# Altium footprint library SMD Active.PcbLib: 72 footprints (part 6 of 8)
Each footprint in its own frame and in the unit in brackets; x right, y up, seen from the top. Pads: shape width x height; smd on the part's side, far side on the other; paste and mask are expansions set on the pad; w line width, h text height; cw(c..) or ccw(c..) is an arc to the next point about the centre after c.
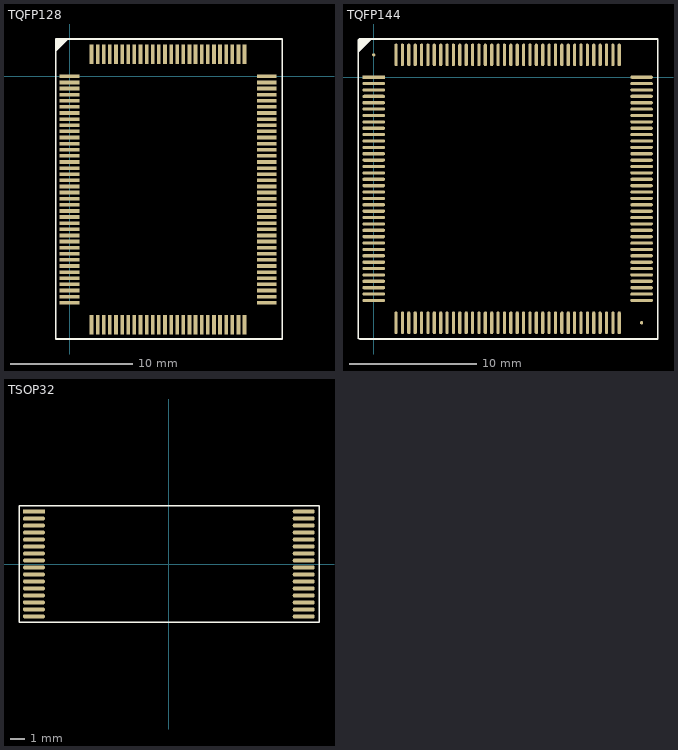
[diagram p5: the footprints below, top view; thin cyan lines are the x and y axes]

## TQFP128 [mm]
pads (128):
  rect 1.6x0.3 smd: 1(0,0) 2(0,-0.5) 3(0,-1) 4(0,-1.5) 5(0,-2) 6(0,-2.5) 7(0,-3) 8(0,-3.5) 9(0,-4) 10(0,-4.5) 11(0,-5) 12(0,-5.5) 13(0,-6) 14(0,-6.5) 15(0,-7) 16(0,-7.5) 17(0,-8) 18(0,-8.5) 19(0,-9) 20(0,-9.5) 21(0,-10) 22(0,-10.5) 23(0,-11) 24(0,-11.5) 25(0,-12) 26(0,-12.5) 27(0,-13) 28(0,-13.5) 29(0,-14) 30(0,-14.5) 31(0,-15) 32(0,-15.5) 33(0,-16) 34(0,-16.5) 35(0,-17) 36(0,-17.5) 37(0,-18) 38(0,-18.5) 65(16.1,-18.5) 66(16.1,-18) 67(16.1,-17.5) 68(16.1,-17) 69(16.1,-16.5) 70(16.1,-16) 71(16.1,-15.5) 72(16.1,-15) 73(16.1,-14.5) 74(16.1,-14) 75(16.1,-13.5) 76(16.1,-13) 77(16.1,-12.5) 78(16.1,-12) 79(16.1,-11.5) 80(16.1,-11) 81(16.1,-10.5) 82(16.1,-10) 83(16.1,-9.5) 84(16.1,-9) 85(16.1,-8.5) 86(16.1,-8) 87(16.1,-7.5) 88(16.1,-7) 89(16.1,-6.5) 90(16.1,-6) 91(16.1,-5.5) 92(16.1,-5) 93(16.1,-4.5) 94(16.1,-4) 95(16.1,-3.5) 96(16.1,-3) 97(16.1,-2.5) 98(16.1,-2) 99(16.1,-1.5) 100(16.1,-1) 101(16.1,-0.5) 102(16.1,0)
  rect 0.3x1.6 smd: 39(1.8,-20.3) 40(2.3,-20.3) 41(2.8,-20.3) 42(3.3,-20.3) 43(3.8,-20.3) 44(4.3,-20.3) 45(4.8,-20.3) 46(5.3,-20.3) 47(5.8,-20.3) 48(6.3,-20.3) 49(6.8,-20.3) 50(7.3,-20.3) 51(7.8,-20.3) 52(8.3,-20.3) 53(8.8,-20.3) 54(9.3,-20.3) 55(9.8,-20.3) 56(10.3,-20.3) 57(10.8,-20.3) 58(11.3,-20.3) 59(11.8,-20.3) 60(12.3,-20.3) 61(12.8,-20.3) 62(13.3,-20.3) 63(13.8,-20.3) 64(14.3,-20.3) 103(14.3,1.8) 104(13.8,1.8) 105(13.3,1.8) 106(12.8,1.8) 107(12.3,1.8) 108(11.8,1.8) 109(11.3,1.8) 110(10.8,1.8) 111(10.3,1.8) 112(9.8,1.8) 113(9.3,1.8) 114(8.8,1.8) 115(8.3,1.8) 116(7.8,1.8) 117(7.3,1.8) 118(6.8,1.8) 119(6.3,1.8) 120(5.8,1.8) 121(5.3,1.8) 122(4.8,1.8) 123(4.3,1.8) 124(3.8,1.8) 125(3.3,1.8) 126(2.8,1.8) 127(2.3,1.8) 128(1.8,1.8)
Top Overlay:
  lines w0.102: -0.931,2.879 -1.143,3.048 -1.143,2.794 -0.889,3.048 -0.762,3.048 -1.143,2.667 -1.143,2.54 -0.635,3.048 -0.508,3.048 -1.143,2.413 -1.143,2.286 -0.381,3.048 -0.254,3.048 -1.143,2.159 -1.143,2.032 -0.127,3.048
  lines w0.127: -1.143,-21.463 17.399,-21.463 17.399,3.048 -1.143,3.048 -1.143,-21.463
3D body: height 0.64, standoff 0.3, extent 15.109,-18.662 15.935,-18.357
3D body: height 0.3, standoff 0, extent 15.719,-18.662 16.278,-18.357
3D body: height 0.64, standoff 0.3, extent 15.109,-18.162 15.935,-17.857
3D body: height 0.3, standoff 0, extent 15.719,-18.162 16.278,-17.857
3D body: height 0.64, standoff 0.3, extent 15.109,-17.662 15.935,-17.357
3D body: height 0.3, standoff 0, extent 15.719,-17.662 16.278,-17.357
3D body: height 0.64, standoff 0.3, extent 15.109,-17.162 15.935,-16.857
3D body: height 0.3, standoff 0, extent 15.719,-17.162 16.278,-16.857
3D body: height 0.64, standoff 0.3, extent 15.109,-16.662 15.935,-16.357
3D body: height 0.3, standoff 0, extent 15.719,-16.662 16.278,-16.357
3D body: height 0.64, standoff 0.3, extent 15.109,-16.162 15.935,-15.857
3D body: height 0.3, standoff 0, extent 15.719,-16.162 16.278,-15.857
3D body: height 0.64, standoff 0.3, extent 15.109,-15.662 15.935,-15.357
3D body: height 0.3, standoff 0, extent 15.719,-15.662 16.278,-15.357
3D body: height 0.64, standoff 0.3, extent 15.109,-15.162 15.935,-14.857
3D body: height 0.3, standoff 0, extent 15.719,-15.162 16.278,-14.857
3D body: height 0.64, standoff 0.3, extent 15.109,-14.662 15.935,-14.357
3D body: height 0.3, standoff 0, extent 15.719,-14.662 16.278,-14.357
3D body: height 0.3, standoff 0, extent 15.719,-10.162 16.278,-9.857
3D body: height 0.64, standoff 0.3, extent 15.109,-10.162 15.935,-9.857
3D body: height 0.3, standoff 0, extent 15.719,-10.662 16.278,-10.357
3D body: height 0.64, standoff 0.3, extent 15.109,-10.662 15.935,-10.357
3D body: height 0.3, standoff 0, extent 15.719,-11.162 16.278,-10.857
3D body: height 0.64, standoff 0.3, extent 15.109,-11.162 15.935,-10.857
3D body: height 0.3, standoff 0, extent 15.719,-11.662 16.278,-11.357
3D body: height 0.64, standoff 0.3, extent 15.109,-11.662 15.935,-11.357
3D body: height 0.3, standoff 0, extent 15.719,-12.162 16.278,-11.857
3D body: height 0.64, standoff 0.3, extent 15.109,-12.162 15.935,-11.857
3D body: height 0.3, standoff 0, extent 15.719,-12.662 16.278,-12.357
3D body: height 0.64, standoff 0.3, extent 15.109,-12.662 15.935,-12.357
3D body: height 0.3, standoff 0, extent 15.719,-13.162 16.278,-12.857
3D body: height 0.64, standoff 0.3, extent 15.109,-13.162 15.935,-12.857
3D body: height 0.3, standoff 0, extent 15.719,-13.662 16.278,-13.357
3D body: height 0.64, standoff 0.3, extent 15.109,-13.662 15.935,-13.357
3D body: height 0.3, standoff 0, extent 15.719,-14.162 16.278,-13.857
3D body: height 0.64, standoff 0.3, extent 15.109,-14.162 15.935,-13.857
3D body: height 0.3, standoff 0, extent 15.719,-5.662 16.278,-5.357
3D body: height 0.64, standoff 0.3, extent 15.109,-5.662 15.935,-5.357
3D body: height 0.3, standoff 0, extent 15.719,-6.162 16.278,-5.857
3D body: height 0.64, standoff 0.3, extent 15.109,-6.162 15.935,-5.857
3D body: height 0.3, standoff 0, extent 15.719,-6.662 16.278,-6.357
3D body: height 0.64, standoff 0.3, extent 15.109,-6.662 15.935,-6.357
3D body: height 0.3, standoff 0, extent 15.719,-7.162 16.278,-6.857
3D body: height 0.64, standoff 0.3, extent 15.109,-7.162 15.935,-6.857
3D body: height 0.3, standoff 0, extent 15.719,-7.662 16.278,-7.357
3D body: height 0.64, standoff 0.3, extent 15.109,-7.662 15.935,-7.357
3D body: height 0.3, standoff 0, extent 15.719,-8.162 16.278,-7.857
3D body: height 0.64, standoff 0.3, extent 15.109,-8.162 15.935,-7.857
3D body: height 0.3, standoff 0, extent 15.719,-8.662 16.278,-8.357
3D body: height 0.64, standoff 0.3, extent 15.109,-8.662 15.935,-8.357
3D body: height 0.3, standoff 0, extent 15.719,-9.162 16.278,-8.857
3D body: height 0.64, standoff 0.3, extent 15.109,-9.162 15.935,-8.857
3D body: height 0.3, standoff 0, extent 15.719,-9.662 16.278,-9.357
3D body: height 0.64, standoff 0.3, extent 15.109,-9.662 15.935,-9.357
3D body: height 0.3, standoff 0, extent 15.719,-1.162 16.278,-0.857
3D body: height 0.64, standoff 0.3, extent 15.109,-1.162 15.935,-0.857
3D body: height 0.3, standoff 0, extent 15.719,-1.662 16.278,-1.357
3D body: height 0.64, standoff 0.3, extent 15.109,-1.662 15.935,-1.357
3D body: height 0.3, standoff 0, extent 15.719,-2.162 16.278,-1.857
3D body: height 0.64, standoff 0.3, extent 15.109,-2.162 15.935,-1.857
3D body: height 0.3, standoff 0, extent 15.719,-2.662 16.278,-2.357
3D body: height 0.64, standoff 0.3, extent 15.109,-2.662 15.935,-2.357
3D body: height 0.3, standoff 0, extent 15.719,-3.162 16.278,-2.857
3D body: height 0.64, standoff 0.3, extent 15.109,-3.162 15.935,-2.857
3D body: height 0.3, standoff 0, extent 15.719,-3.662 16.278,-3.357
3D body: height 0.64, standoff 0.3, extent 15.109,-3.662 15.935,-3.357
3D body: height 0.3, standoff 0, extent 15.719,-4.162 16.278,-3.857
3D body: height 0.64, standoff 0.3, extent 15.109,-4.162 15.935,-3.857
3D body: height 0.3, standoff 0, extent 15.719,-4.662 16.278,-4.357
3D body: height 0.64, standoff 0.3, extent 15.109,-4.662 15.935,-4.357
3D body: height 0.3, standoff 0, extent 15.719,-5.162 16.278,-4.857
3D body: height 0.64, standoff 0.3, extent 15.109,-5.162 15.935,-4.857
3D body: height 0.3, standoff 0, extent 15.719,-0.162 16.278,0.143
3D body: height 0.64, standoff 0.3, extent 15.109,-0.162 15.935,0.143
3D body: height 0.3, standoff 0, extent 15.719,-0.662 16.278,-0.357
3D body: height 0.64, standoff 0.3, extent 15.109,-0.662 15.935,-0.357
3D body: height 0.3, standoff 0, extent 10.157,1.419 10.462,1.978
3D body: height 0.64, standoff 0.3, extent 10.157,0.809 10.462,1.635
3D body: height 0.3, standoff 0, extent 10.657,1.419 10.962,1.978
3D body: height 0.64, standoff 0.3, extent 10.657,0.809 10.962,1.635
3D body: height 0.3, standoff 0, extent 11.157,1.419 11.462,1.978
3D body: height 0.64, standoff 0.3, extent 11.157,0.809 11.462,1.635
3D body: height 0.3, standoff 0, extent 11.657,1.419 11.962,1.978
3D body: height 0.64, standoff 0.3, extent 11.657,0.809 11.962,1.635
3D body: height 0.3, standoff 0, extent 12.157,1.419 12.462,1.978
3D body: height 0.64, standoff 0.3, extent 12.157,0.809 12.462,1.635
3D body: height 0.3, standoff 0, extent 12.657,1.419 12.962,1.978
3D body: height 0.64, standoff 0.3, extent 12.657,0.809 12.962,1.635
3D body: height 0.3, standoff 0, extent 13.157,1.419 13.462,1.978
3D body: height 0.64, standoff 0.3, extent 13.157,0.809 13.462,1.635
3D body: height 0.3, standoff 0, extent 13.657,1.419 13.962,1.978
3D body: height 0.64, standoff 0.3, extent 13.657,0.809 13.962,1.635
3D body: height 0.3, standoff 0, extent 14.157,1.419 14.462,1.978
3D body: height 0.64, standoff 0.3, extent 14.157,0.809 14.462,1.635
3D body: height 0.3, standoff 0, extent 5.657,1.419 5.962,1.978
3D body: height 0.64, standoff 0.3, extent 5.657,0.809 5.962,1.635
3D body: height 0.3, standoff 0, extent 6.157,1.419 6.462,1.978
3D body: height 0.64, standoff 0.3, extent 6.157,0.809 6.462,1.635
3D body: height 0.3, standoff 0, extent 6.657,1.419 6.962,1.978
3D body: height 0.64, standoff 0.3, extent 6.657,0.809 6.962,1.635
3D body: height 0.3, standoff 0, extent 7.157,1.419 7.462,1.978
3D body: height 0.64, standoff 0.3, extent 7.157,0.809 7.462,1.635
3D body: height 0.3, standoff 0, extent 7.657,1.419 7.962,1.978
3D body: height 0.64, standoff 0.3, extent 7.657,0.809 7.962,1.635
3D body: height 0.3, standoff 0, extent 8.157,1.419 8.462,1.978
3D body: height 0.64, standoff 0.3, extent 8.157,0.809 8.462,1.635
3D body: height 0.3, standoff 0, extent 8.657,1.419 8.962,1.978
3D body: height 0.64, standoff 0.3, extent 8.657,0.809 8.962,1.635
3D body: height 0.3, standoff 0, extent 9.157,1.419 9.462,1.978
3D body: height 0.64, standoff 0.3, extent 9.157,0.809 9.462,1.635
3D body: height 0.3, standoff 0, extent 9.657,1.419 9.962,1.978
3D body: height 0.64, standoff 0.3, extent 9.657,0.809 9.962,1.635
3D body: height 0.3, standoff 0, extent 1.657,1.419 1.962,1.978
3D body: height 0.64, standoff 0.3, extent 1.657,0.809 1.962,1.635
3D body: height 0.3, standoff 0, extent 2.157,1.419 2.462,1.978
3D body: height 0.64, standoff 0.3, extent 2.157,0.809 2.462,1.635
3D body: height 0.3, standoff 0, extent 2.657,1.419 2.962,1.978
3D body: height 0.64, standoff 0.3, extent 2.657,0.809 2.962,1.635
3D body: height 0.3, standoff 0, extent 3.157,1.419 3.462,1.978
3D body: height 0.64, standoff 0.3, extent 3.157,0.809 3.462,1.635
3D body: height 0.3, standoff 0, extent 3.657,1.419 3.962,1.978
3D body: height 0.64, standoff 0.3, extent 3.657,0.809 3.962,1.635
3D body: height 0.3, standoff 0, extent 4.157,1.419 4.462,1.978
3D body: height 0.64, standoff 0.3, extent 4.157,0.809 4.462,1.635
3D body: height 0.3, standoff 0, extent 4.657,1.419 4.962,1.978
3D body: height 0.64, standoff 0.3, extent 4.657,0.809 4.962,1.635
3D body: height 0.3, standoff 0, extent 5.157,1.419 5.462,1.978
3D body: height 0.64, standoff 0.3, extent 5.157,0.809 5.462,1.635
3D body: height 0.64, standoff 0.3, extent 10.638,-20.135 10.943,-19.309
3D body: height 0.3, standoff 0, extent 10.638,-20.478 10.943,-19.919
3D body: height 0.64, standoff 0.3, extent 11.138,-20.135 11.443,-19.309
3D body: height 0.3, standoff 0, extent 11.138,-20.478 11.443,-19.919
3D body: height 0.64, standoff 0.3, extent 11.638,-20.135 11.943,-19.309
3D body: height 0.3, standoff 0, extent 11.638,-20.478 11.943,-19.919
3D body: height 0.64, standoff 0.3, extent 12.138,-20.135 12.443,-19.309
3D body: height 0.3, standoff 0, extent 12.138,-20.478 12.443,-19.919
3D body: height 0.64, standoff 0.3, extent 12.638,-20.135 12.943,-19.309
3D body: height 0.3, standoff 0, extent 12.638,-20.478 12.943,-19.919
3D body: height 0.64, standoff 0.3, extent 13.138,-20.135 13.443,-19.309
3D body: height 0.3, standoff 0, extent 13.138,-20.478 13.443,-19.919
3D body: height 0.64, standoff 0.3, extent 13.638,-20.135 13.943,-19.309
3D body: height 0.3, standoff 0, extent 13.638,-20.478 13.943,-19.919
3D body: height 0.64, standoff 0.3, extent 14.138,-20.135 14.443,-19.309
3D body: height 0.3, standoff 0, extent 14.138,-20.478 14.443,-19.919
3D body: height 0.64, standoff 0.3, extent 6.138,-20.135 6.443,-19.309
3D body: height 0.3, standoff 0, extent 6.138,-20.478 6.443,-19.919
3D body: height 0.64, standoff 0.3, extent 6.638,-20.135 6.943,-19.309
3D body: height 0.3, standoff 0, extent 6.638,-20.478 6.943,-19.919
3D body: height 0.64, standoff 0.3, extent 7.138,-20.135 7.443,-19.309
3D body: height 0.3, standoff 0, extent 7.138,-20.478 7.443,-19.919
3D body: height 0.64, standoff 0.3, extent 7.638,-20.135 7.943,-19.309
3D body: height 0.3, standoff 0, extent 7.638,-20.478 7.943,-19.919
3D body: height 0.64, standoff 0.3, extent 8.138,-20.135 8.443,-19.309
3D body: height 0.3, standoff 0, extent 8.138,-20.478 8.443,-19.919
3D body: height 0.64, standoff 0.3, extent 8.638,-20.135 8.943,-19.309
3D body: height 0.3, standoff 0, extent 8.638,-20.478 8.943,-19.919
3D body: height 0.64, standoff 0.3, extent 9.138,-20.135 9.443,-19.309
3D body: height 0.3, standoff 0, extent 9.138,-20.478 9.443,-19.919
3D body: height 0.64, standoff 0.3, extent 9.638,-20.135 9.943,-19.309
3D body: height 0.3, standoff 0, extent 9.638,-20.478 9.943,-19.919
3D body: height 0.64, standoff 0.3, extent 10.138,-20.135 10.443,-19.309
3D body: height 0.3, standoff 0, extent 10.138,-20.478 10.443,-19.919
3D body: height 0.64, standoff 0.3, extent 1.638,-20.135 1.943,-19.309
3D body: height 0.3, standoff 0, extent 1.638,-20.478 1.943,-19.919
3D body: height 0.64, standoff 0.3, extent 2.138,-20.135 2.443,-19.309
3D body: height 0.3, standoff 0, extent 2.138,-20.478 2.443,-19.919
3D body: height 0.64, standoff 0.3, extent 2.638,-20.135 2.943,-19.309
3D body: height 0.3, standoff 0, extent 2.638,-20.478 2.943,-19.919
3D body: height 0.64, standoff 0.3, extent 3.138,-20.135 3.443,-19.309
3D body: height 0.3, standoff 0, extent 3.138,-20.478 3.443,-19.919
3D body: height 0.64, standoff 0.3, extent 3.638,-20.135 3.943,-19.309
3D body: height 0.3, standoff 0, extent 3.638,-20.478 3.943,-19.919
3D body: height 0.64, standoff 0.3, extent 4.138,-20.135 4.443,-19.309
3D body: height 0.3, standoff 0, extent 4.138,-20.478 4.443,-19.919
3D body: height 0.64, standoff 0.3, extent 4.638,-20.135 4.943,-19.309
3D body: height 0.3, standoff 0, extent 4.638,-20.478 4.943,-19.919
3D body: height 0.64, standoff 0.3, extent 5.138,-20.135 5.443,-19.309
3D body: height 0.3, standoff 0, extent 5.138,-20.478 5.443,-19.919
3D body: height 0.64, standoff 0.3, extent 5.638,-20.135 5.943,-19.309
3D body: height 0.3, standoff 0, extent 5.638,-20.478 5.943,-19.919
3D body: height 0.64, standoff 0.3, extent 0.165,-18.143 0.991,-17.838
3D body: height 0.3, standoff 0, extent -0.178,-18.143 0.381,-17.838
3D body: height 0.64, standoff 0.3, extent 0.165,-18.643 0.991,-18.338
3D body: height 0.3, standoff 0, extent -0.178,-18.643 0.381,-18.338
3D body: height 0.64, standoff 0.3, extent 0.165,-13.643 0.991,-13.338
3D body: height 0.3, standoff 0, extent -0.178,-13.643 0.381,-13.338
3D body: height 0.64, standoff 0.3, extent 0.165,-14.143 0.991,-13.838
3D body: height 0.3, standoff 0, extent -0.178,-14.143 0.381,-13.838
3D body: height 0.64, standoff 0.3, extent 0.165,-14.643 0.991,-14.338
3D body: height 0.3, standoff 0, extent -0.178,-14.643 0.381,-14.338
3D body: height 0.64, standoff 0.3, extent 0.165,-15.143 0.991,-14.838
3D body: height 0.3, standoff 0, extent -0.178,-15.143 0.381,-14.838
3D body: height 0.64, standoff 0.3, extent 0.165,-15.643 0.991,-15.338
3D body: height 0.3, standoff 0, extent -0.178,-15.643 0.381,-15.338
3D body: height 0.64, standoff 0.3, extent 0.165,-16.143 0.991,-15.838
3D body: height 0.3, standoff 0, extent -0.178,-16.143 0.381,-15.838
3D body: height 0.64, standoff 0.3, extent 0.165,-16.643 0.991,-16.338
3D body: height 0.3, standoff 0, extent -0.178,-16.643 0.381,-16.338
3D body: height 0.64, standoff 0.3, extent 0.165,-17.143 0.991,-16.838
3D body: height 0.3, standoff 0, extent -0.178,-17.143 0.381,-16.838
3D body: height 0.64, standoff 0.3, extent 0.165,-17.643 0.991,-17.338
3D body: height 0.3, standoff 0, extent -0.178,-17.643 0.381,-17.338
3D body: height 0.64, standoff 0.3, extent 0.165,-9.143 0.991,-8.838
3D body: height 0.3, standoff 0, extent -0.178,-9.143 0.381,-8.838
3D body: height 0.64, standoff 0.3, extent 0.165,-9.643 0.991,-9.338
3D body: height 0.3, standoff 0, extent -0.178,-9.643 0.381,-9.338
3D body: height 0.64, standoff 0.3, extent 0.165,-10.143 0.991,-9.838
3D body: height 0.3, standoff 0, extent -0.178,-10.143 0.381,-9.838
3D body: height 0.64, standoff 0.3, extent 0.165,-10.643 0.991,-10.338
3D body: height 0.3, standoff 0, extent -0.178,-10.643 0.381,-10.338
3D body: height 0.64, standoff 0.3, extent 0.165,-11.143 0.991,-10.838
3D body: height 0.3, standoff 0, extent -0.178,-11.143 0.381,-10.838
3D body: height 0.64, standoff 0.3, extent 0.165,-11.643 0.991,-11.338
3D body: height 0.3, standoff 0, extent -0.178,-11.643 0.381,-11.338
3D body: height 0.64, standoff 0.3, extent 0.165,-12.143 0.991,-11.838
3D body: height 0.3, standoff 0, extent -0.178,-12.143 0.381,-11.838
3D body: height 0.64, standoff 0.3, extent 0.165,-12.643 0.991,-12.338
3D body: height 0.3, standoff 0, extent -0.178,-12.643 0.381,-12.338
3D body: height 0.64, standoff 0.3, extent 0.165,-13.143 0.991,-12.838
3D body: height 0.3, standoff 0, extent -0.178,-13.143 0.381,-12.838
3D body: height 0.64, standoff 0.3, extent 0.165,-4.643 0.991,-4.338
3D body: height 0.3, standoff 0, extent -0.178,-4.643 0.381,-4.338
3D body: height 0.64, standoff 0.3, extent 0.165,-5.143 0.991,-4.838
3D body: height 0.3, standoff 0, extent -0.178,-5.143 0.381,-4.838
3D body: height 0.64, standoff 0.3, extent 0.165,-5.643 0.991,-5.338
3D body: height 0.3, standoff 0, extent -0.178,-5.643 0.381,-5.338
3D body: height 0.64, standoff 0.3, extent 0.165,-6.143 0.991,-5.838
3D body: height 0.3, standoff 0, extent -0.178,-6.143 0.381,-5.838
3D body: height 0.64, standoff 0.3, extent 0.165,-6.643 0.991,-6.338
3D body: height 0.3, standoff 0, extent -0.178,-6.643 0.381,-6.338
3D body: height 0.64, standoff 0.3, extent 0.165,-7.143 0.991,-6.838
3D body: height 0.3, standoff 0, extent -0.178,-7.143 0.381,-6.838
3D body: height 0.64, standoff 0.3, extent 0.165,-7.643 0.991,-7.338
3D body: height 0.3, standoff 0, extent -0.178,-7.643 0.381,-7.338
3D body: height 0.64, standoff 0.3, extent 0.165,-8.143 0.991,-7.838
3D body: height 0.3, standoff 0, extent -0.178,-8.143 0.381,-7.838
3D body: height 0.64, standoff 0.3, extent 0.165,-8.643 0.991,-8.338
3D body: height 0.3, standoff 0, extent -0.178,-8.643 0.381,-8.338
3D body: height 0.3, standoff 0, extent -0.178,-4.143 0.381,-3.838
3D body: height 0.64, standoff 0.3, extent 0.165,-4.143 0.991,-3.838
3D body: height 0.3, standoff 0, extent -0.178,-3.643 0.381,-3.338
3D body: height 0.64, standoff 0.3, extent 0.165,-3.643 0.991,-3.338
3D body: height 0.3, standoff 0, extent -0.178,-3.143 0.381,-2.838
3D body: height 0.64, standoff 0.3, extent 0.165,-3.143 0.991,-2.838
3D body: height 0.3, standoff 0, extent -0.178,-2.643 0.381,-2.338
3D body: height 0.64, standoff 0.3, extent 0.165,-2.643 0.991,-2.338
3D body: height 0.3, standoff 0, extent -0.178,-2.143 0.381,-1.838
3D body: height 0.64, standoff 0.3, extent 0.165,-2.143 0.991,-1.838
3D body: height 0.3, standoff 0, extent -0.178,-1.643 0.381,-1.338
3D body: height 0.64, standoff 0.3, extent 0.165,-1.643 0.991,-1.338
3D body: height 0.3, standoff 0, extent -0.178,-1.143 0.381,-0.838
3D body: height 0.64, standoff 0.3, extent 0.165,-1.143 0.991,-0.838
3D body: height 0.3, standoff 0, extent -0.178,-0.643 0.381,-0.338
3D body: height 0.64, standoff 0.3, extent 0.165,-0.643 0.991,-0.338
3D body: height 0.3, standoff 0, extent -0.178,-0.143 0.381,0.162
3D body: height 0.64, standoff 0.3, extent 0.165,-0.143 0.991,0.162
3D body: height 1.02, standoff 0, extent 0.815,-19.329 15.138,0.838

## TQFP144 [mil]
pads (146):
  rect 70x10 smd: 1(0,0)
  oval 70x10 smd: 2(0,-19.68) 3(0,-39.37) 4(0,-59.05) 5(0,-78.74) 6(0,-98.42) 7(0,-118.11) 8(0,-137.79) 9(0,-157.48) 10(0,-177.16) 11(0,-196.85) 12(0,-216.53) 13(0,-236.22) 14(0,-255.91) 15(0,-275.59) 16(0,-295.27) 17(0,-314.96) 18(0,-334.64) 19(0,-354.33) 20(0,-374.01) 21(0,-393.7) 22(0,-413.38) 23(0,-433.07) 24(0,-452.75) 25(0,-472.44) 26(0,-492.12) 27(0,-511.81) 28(0,-531.5) 29(0,-551.18) 30(0,-570.87) 31(0,-590.55) 32(0,-610.24) 33(0,-629.92) 34(0,-649.61) 35(0,-669.29) 36(0,-688.98) 73(826.77,-688.98) 74(826.77,-669.29) 75(826.77,-649.61) 76(826.77,-629.92) 77(826.77,-610.24) 78(826.77,-590.55) 79(826.77,-570.87) 80(826.77,-551.18) 81(826.77,-531.5) 82(826.77,-511.81) 83(826.77,-492.12) 84(826.77,-472.44) 85(826.77,-452.75) 86(826.77,-433.07) 87(826.77,-413.38) 88(826.77,-393.7) 89(826.77,-374.01) 90(826.77,-354.33) 91(826.77,-334.64) 92(826.77,-314.96) 93(826.77,-295.27) 94(826.77,-275.59) 95(826.77,-255.91) 96(826.77,-236.22) 97(826.77,-216.53) 98(826.77,-196.85) 99(826.77,-177.16) 100(826.77,-157.48) 101(826.77,-137.79) 102(826.77,-118.11) 103(826.77,-98.42) 104(826.77,-78.74) 105(826.77,-59.05) 106(826.77,-39.37) 107(826.77,-19.68) 108(826.77,0)
  oval 10x70 smd: 37(68.9,-757.87) 38(88.58,-757.87) 39(108.27,-757.87) 40(127.95,-757.87) 41(147.64,-757.87) 42(167.32,-757.87) 43(187.01,-757.87) 44(206.69,-757.87) 45(226.38,-757.87) 46(246.06,-757.87) 47(265.75,-757.87) 48(285.43,-757.87) 49(305.12,-757.87) 50(324.8,-757.87) 51(344.49,-757.87) 52(364.17,-757.87) 53(383.86,-757.87) 54(403.54,-757.87) 55(423.23,-757.87) 56(442.91,-757.87) 57(462.6,-757.87) 58(482.28,-757.87) 59(501.97,-757.87) 60(521.65,-757.87) 61(541.34,-757.87) 62(561.02,-757.87) 63(580.71,-757.87) 64(600.39,-757.87) 65(620.08,-757.87) 66(639.76,-757.87) 67(659.45,-757.87) 68(679.13,-757.87) 69(698.82,-757.87) 70(718.5,-757.87) 71(738.19,-757.87) 72(757.87,-757.87) 109(757.87,68.9) 110(738.19,68.9) 111(718.5,68.9) 112(698.82,68.9) 113(679.13,68.9) 114(659.45,68.9) 115(639.76,68.9) 116(620.08,68.9) 117(600.39,68.9) 118(580.71,68.9) 119(561.02,68.9) 120(541.34,68.9) 121(521.65,68.9) 122(501.97,68.9) 123(482.28,68.9) 124(462.6,68.9) 125(442.91,68.9) 126(423.23,68.9) 127(403.54,68.9) 128(383.86,68.9) 129(364.17,68.9) 130(344.49,68.9) 131(324.8,68.9) 132(305.12,68.9) 133(285.43,68.9) 134(265.75,68.9) 135(246.06,68.9) 136(226.38,68.9) 137(206.69,68.9) 138(187.01,68.9) 139(167.32,68.9) 140(147.64,68.9) 141(127.95,68.9) 142(108.27,68.9) 143(88.58,68.9) 144(68.9,68.9)
  round 10 smd: F1(0,68.9) F1(826.77,-757.87)
Top Overlay:
  lines w5: -20.12,114.88 -45.12,89.88 ; -13,118 -45,118 -48.12,114.88 ; -48.12,114.88 -35.12,114.88 ; -48.12,114.88 -42,118 877,118 877,-808 -43,-808 -48.12,-805.88 -48.12,114.88 ; -48.12,114.88 -48.12,107.88 -41.12,114.88 ; -45.12,89.88 -45.12,94.88 -25.12,114.88 ; -45.12,89.88 -45.12,110.88 ; -45.12,89.88 -45.12,110.88 ; -45.12,110.88 -41.12,114.88 ; -45.12,110.88 -41.12,114.88 ; -41.12,114.88 -25.12,114.88 ; -41.12,114.88 -16.24,114.88 -48.12,83 -48.12,77.88 -11.12,114.88 -25.12,114.88 ; -41.12,114.88 -35.12,114.88 ; -35.12,114.88 -45.12,104.88 -45.12,99.88 -30.12,114.88 -25.12,114.88
3D body: height 12, standoff 0, extent 752.24,53.9 764.24,75.9
3D body: height 25, standoff 12, extent 752.24,29.9 764.24,62.4
3D body: height 25, standoff 12, extent 732.56,29.9 744.56,62.4
3D body: height 12, standoff 0, extent 732.56,53.9 744.56,75.9
3D body: height 25, standoff 12, extent 712.87,29.9 724.87,62.4
3D body: height 12, standoff 0, extent 712.87,53.9 724.87,75.9
3D body: height 25, standoff 12, extent 693.19,29.9 705.19,62.4
3D body: height 12, standoff 0, extent 693.19,53.9 705.19,75.9
3D body: height 25, standoff 12, extent 673.5,29.9 685.5,62.4
3D body: height 12, standoff 0, extent 673.5,53.9 685.5,75.9
3D body: height 25, standoff 12, extent 653.82,29.9 665.82,62.4
3D body: height 12, standoff 0, extent 653.82,53.9 665.82,75.9
3D body: height 12, standoff 0, extent 535.71,53.9 547.71,75.9
3D body: height 25, standoff 12, extent 535.71,29.9 547.71,62.4
3D body: height 12, standoff 0, extent 555.39,53.9 567.39,75.9
3D body: height 25, standoff 12, extent 555.39,29.9 567.39,62.4
3D body: height 12, standoff 0, extent 575.08,53.9 587.08,75.9
3D body: height 25, standoff 12, extent 575.08,29.9 587.08,62.4
3D body: height 12, standoff 0, extent 594.76,53.9 606.76,75.9
3D body: height 25, standoff 12, extent 594.76,29.9 606.76,62.4
3D body: height 12, standoff 0, extent 614.45,53.9 626.45,75.9
3D body: height 25, standoff 12, extent 614.45,29.9 626.45,62.4
3D body: height 25, standoff 12, extent 634.13,29.9 646.13,62.4
3D body: height 12, standoff 0, extent 634.13,53.9 646.13,75.9
3D body: height 12, standoff 0, extent 417.6,53.9 429.6,75.9
3D body: height 25, standoff 12, extent 417.6,29.9 429.6,62.4
3D body: height 12, standoff 0, extent 437.28,53.9 449.28,75.9
3D body: height 25, standoff 12, extent 437.28,29.9 449.28,62.4
3D body: height 12, standoff 0, extent 456.97,53.9 468.97,75.9
3D body: height 25, standoff 12, extent 456.97,29.9 468.97,62.4
3D body: height 12, standoff 0, extent 476.65,53.9 488.65,75.9
3D body: height 25, standoff 12, extent 476.65,29.9 488.65,62.4
3D body: height 12, standoff 0, extent 496.34,53.9 508.34,75.9
3D body: height 25, standoff 12, extent 496.34,29.9 508.34,62.4
3D body: height 25, standoff 12, extent 516.02,29.9 528.02,62.4
3D body: height 12, standoff 0, extent 516.02,53.9 528.02,75.9
3D body: height 12, standoff 0, extent 299.49,53.9 311.49,75.9
3D body: height 25, standoff 12, extent 299.49,29.9 311.49,62.4
3D body: height 12, standoff 0, extent 319.17,53.9 331.17,75.9
3D body: height 25, standoff 12, extent 319.17,29.9 331.17,62.4
3D body: height 12, standoff 0, extent 338.86,53.9 350.86,75.9
3D body: height 25, standoff 12, extent 338.86,29.9 350.86,62.4
3D body: height 12, standoff 0, extent 358.54,53.9 370.54,75.9
3D body: height 25, standoff 12, extent 358.54,29.9 370.54,62.4
3D body: height 12, standoff 0, extent 378.23,53.9 390.23,75.9
3D body: height 25, standoff 12, extent 378.23,29.9 390.23,62.4
3D body: height 25, standoff 12, extent 397.91,29.9 409.91,62.4
3D body: height 12, standoff 0, extent 397.91,53.9 409.91,75.9
3D body: height 12, standoff 0, extent 181.38,53.9 193.38,75.9
3D body: height 25, standoff 12, extent 181.38,29.9 193.38,62.4
3D body: height 12, standoff 0, extent 201.06,53.9 213.06,75.9
3D body: height 25, standoff 12, extent 201.06,29.9 213.06,62.4
3D body: height 12, standoff 0, extent 220.75,53.9 232.75,75.9
3D body: height 25, standoff 12, extent 220.75,29.9 232.75,62.4
3D body: height 12, standoff 0, extent 240.43,53.9 252.43,75.9
3D body: height 25, standoff 12, extent 240.43,29.9 252.43,62.4
3D body: height 12, standoff 0, extent 260.12,53.9 272.12,75.9
3D body: height 25, standoff 12, extent 260.12,29.9 272.12,62.4
3D body: height 25, standoff 12, extent 279.8,29.9 291.8,62.4
3D body: height 12, standoff 0, extent 279.8,53.9 291.8,75.9
3D body: height 12, standoff 0, extent 63.27,53.9 75.27,75.9
3D body: height 25, standoff 12, extent 63.27,29.9 75.27,62.4
3D body: height 12, standoff 0, extent 82.95,53.9 94.95,75.9
3D body: height 25, standoff 12, extent 82.95,29.9 94.95,62.4
3D body: height 12, standoff 0, extent 102.64,53.9 114.64,75.9
3D body: height 25, standoff 12, extent 102.64,29.9 114.64,62.4
3D body: height 12, standoff 0, extent 122.32,53.9 134.32,75.9
3D body: height 25, standoff 12, extent 122.32,29.9 134.32,62.4
3D body: height 12, standoff 0, extent 142.01,53.9 154.01,75.9
3D body: height 25, standoff 12, extent 142.01,29.9 154.01,62.4
3D body: height 25, standoff 12, extent 161.69,29.9 173.69,62.4
3D body: height 12, standoff 0, extent 161.69,53.9 173.69,75.9
3D body: height 12, standoff 0, extent 811.77,-695.35 833.77,-683.35
3D body: height 25, standoff 12, extent 787.77,-695.35 820.27,-683.35
3D body: height 25, standoff 12, extent 787.77,-675.66 820.27,-663.66
3D body: height 12, standoff 0, extent 811.77,-675.66 833.77,-663.66
3D body: height 25, standoff 12, extent 787.77,-655.98 820.27,-643.98
3D body: height 12, standoff 0, extent 811.77,-655.98 833.77,-643.98
3D body: height 25, standoff 12, extent 787.77,-636.29 820.27,-624.29
3D body: height 12, standoff 0, extent 811.77,-636.29 833.77,-624.29
3D body: height 25, standoff 12, extent 787.77,-616.61 820.27,-604.61
3D body: height 12, standoff 0, extent 811.77,-616.61 833.77,-604.61
3D body: height 25, standoff 12, extent 787.77,-596.92 820.27,-584.92
3D body: height 12, standoff 0, extent 811.77,-596.92 833.77,-584.92
3D body: height 12, standoff 0, extent 811.77,-478.81 833.77,-466.81
3D body: height 25, standoff 12, extent 787.77,-478.81 820.27,-466.81
3D body: height 12, standoff 0, extent 811.77,-498.5 833.77,-486.5
3D body: height 25, standoff 12, extent 787.77,-498.5 820.27,-486.5
3D body: height 12, standoff 0, extent 811.77,-518.18 833.77,-506.18
3D body: height 25, standoff 12, extent 787.77,-518.18 820.27,-506.18
3D body: height 12, standoff 0, extent 811.77,-537.87 833.77,-525.87
3D body: height 25, standoff 12, extent 787.77,-537.87 820.27,-525.87
3D body: height 12, standoff 0, extent 811.77,-557.55 833.77,-545.55
3D body: height 25, standoff 12, extent 787.77,-557.55 820.27,-545.55
3D body: height 25, standoff 12, extent 787.77,-577.24 820.27,-565.24
3D body: height 12, standoff 0, extent 811.77,-577.24 833.77,-565.24
3D body: height 12, standoff 0, extent 811.77,-360.7 833.77,-348.7
3D body: height 25, standoff 12, extent 787.77,-360.7 820.27,-348.7
3D body: height 12, standoff 0, extent 811.77,-380.39 833.77,-368.39
3D body: height 25, standoff 12, extent 787.77,-380.39 820.27,-368.39
3D body: height 12, standoff 0, extent 811.77,-400.07 833.77,-388.07
3D body: height 25, standoff 12, extent 787.77,-400.07 820.27,-388.07
3D body: height 12, standoff 0, extent 811.77,-419.76 833.77,-407.76
3D body: height 25, standoff 12, extent 787.77,-419.76 820.27,-407.76
3D body: height 12, standoff 0, extent 811.77,-439.44 833.77,-427.44
3D body: height 25, standoff 12, extent 787.77,-439.44 820.27,-427.44
3D body: height 25, standoff 12, extent 787.77,-459.13 820.27,-447.13
3D body: height 12, standoff 0, extent 811.77,-459.13 833.77,-447.13
3D body: height 12, standoff 0, extent 811.77,-242.59 833.77,-230.59
3D body: height 25, standoff 12, extent 787.77,-242.59 820.27,-230.59
3D body: height 12, standoff 0, extent 811.77,-262.28 833.77,-250.28
3D body: height 25, standoff 12, extent 787.77,-262.28 820.27,-250.28
3D body: height 12, standoff 0, extent 811.77,-281.96 833.77,-269.96
3D body: height 25, standoff 12, extent 787.77,-281.96 820.27,-269.96
3D body: height 12, standoff 0, extent 811.77,-301.65 833.77,-289.65
3D body: height 25, standoff 12, extent 787.77,-301.65 820.27,-289.65
3D body: height 12, standoff 0, extent 811.77,-321.33 833.77,-309.33
3D body: height 25, standoff 12, extent 787.77,-321.33 820.27,-309.33
3D body: height 25, standoff 12, extent 787.77,-341.02 820.27,-329.02
3D body: height 12, standoff 0, extent 811.77,-341.02 833.77,-329.02
3D body: height 12, standoff 0, extent 811.77,-124.48 833.77,-112.48
3D body: height 25, standoff 12, extent 787.77,-124.48 820.27,-112.48
3D body: height 12, standoff 0, extent 811.77,-144.17 833.77,-132.17
3D body: height 25, standoff 12, extent 787.77,-144.17 820.27,-132.17
3D body: height 12, standoff 0, extent 811.77,-163.85 833.77,-151.85
3D body: height 25, standoff 12, extent 787.77,-163.85 820.27,-151.85
3D body: height 12, standoff 0, extent 811.77,-183.54 833.77,-171.54
3D body: height 25, standoff 12, extent 787.77,-183.54 820.27,-171.54
3D body: height 12, standoff 0, extent 811.77,-203.22 833.77,-191.22
3D body: height 25, standoff 12, extent 787.77,-203.22 820.27,-191.22
3D body: height 25, standoff 12, extent 787.77,-222.91 820.27,-210.91
3D body: height 12, standoff 0, extent 811.77,-222.91 833.77,-210.91
3D body: height 12, standoff 0, extent 811.77,-6.37 833.77,5.63
3D body: height 25, standoff 12, extent 787.77,-6.37 820.27,5.63
3D body: height 12, standoff 0, extent 811.77,-26.06 833.77,-14.06
3D body: height 25, standoff 12, extent 787.77,-26.06 820.27,-14.06
3D body: height 12, standoff 0, extent 811.77,-45.74 833.77,-33.74
3D body: height 25, standoff 12, extent 787.77,-45.74 820.27,-33.74
3D body: height 12, standoff 0, extent 811.77,-65.43 833.77,-53.43
3D body: height 25, standoff 12, extent 787.77,-65.43 820.27,-53.43
3D body: height 12, standoff 0, extent 811.77,-85.11 833.77,-73.11
3D body: height 25, standoff 12, extent 787.77,-85.11 820.27,-73.11
3D body: height 25, standoff 12, extent 787.77,-104.8 820.27,-92.8
3D body: height 12, standoff 0, extent 811.77,-104.8 833.77,-92.8
3D body: height 12, standoff 0, extent 62.53,-764.87 74.53,-742.87
3D body: height 25, standoff 12, extent 62.53,-751.37 74.53,-718.87
3D body: height 25, standoff 12, extent 82.21,-751.37 94.21,-718.87
3D body: height 12, standoff 0, extent 82.21,-764.87 94.21,-742.87
3D body: height 25, standoff 12, extent 101.9,-751.37 113.9,-718.87
3D body: height 12, standoff 0, extent 101.9,-764.87 113.9,-742.87
3D body: height 25, standoff 12, extent 121.58,-751.37 133.58,-718.87
3D body: height 12, standoff 0, extent 121.58,-764.87 133.58,-742.87
3D body: height 25, standoff 12, extent 141.27,-751.37 153.27,-718.87
3D body: height 12, standoff 0, extent 141.27,-764.87 153.27,-742.87
3D body: height 25, standoff 12, extent 160.95,-751.37 172.95,-718.87
3D body: height 12, standoff 0, extent 160.95,-764.87 172.95,-742.87
3D body: height 12, standoff 0, extent 279.06,-764.87 291.06,-742.87
3D body: height 25, standoff 12, extent 279.06,-751.37 291.06,-718.87
3D body: height 12, standoff 0, extent 259.38,-764.87 271.38,-742.87
3D body: height 25, standoff 12, extent 259.38,-751.37 271.38,-718.87
3D body: height 12, standoff 0, extent 239.69,-764.87 251.69,-742.87
3D body: height 25, standoff 12, extent 239.69,-751.37 251.69,-718.87
3D body: height 12, standoff 0, extent 220.01,-764.87 232.01,-742.87
3D body: height 25, standoff 12, extent 220.01,-751.37 232.01,-718.87
3D body: height 12, standoff 0, extent 200.32,-764.87 212.32,-742.87
3D body: height 25, standoff 12, extent 200.32,-751.37 212.32,-718.87
3D body: height 25, standoff 12, extent 180.64,-751.37 192.64,-718.87
3D body: height 12, standoff 0, extent 180.64,-764.87 192.64,-742.87
3D body: height 12, standoff 0, extent 397.17,-764.87 409.17,-742.87
3D body: height 25, standoff 12, extent 397.17,-751.37 409.17,-718.87
3D body: height 12, standoff 0, extent 377.49,-764.87 389.49,-742.87
3D body: height 25, standoff 12, extent 377.49,-751.37 389.49,-718.87
3D body: height 12, standoff 0, extent 357.8,-764.87 369.8,-742.87
3D body: height 25, standoff 12, extent 357.8,-751.37 369.8,-718.87
3D body: height 12, standoff 0, extent 338.12,-764.87 350.12,-742.87
3D body: height 25, standoff 12, extent 338.12,-751.37 350.12,-718.87
3D body: height 12, standoff 0, extent 318.43,-764.87 330.43,-742.87
3D body: height 25, standoff 12, extent 318.43,-751.37 330.43,-718.87
3D body: height 25, standoff 12, extent 298.75,-751.37 310.75,-718.87
3D body: height 12, standoff 0, extent 298.75,-764.87 310.75,-742.87
3D body: height 12, standoff 0, extent 515.28,-764.87 527.28,-742.87
3D body: height 25, standoff 12, extent 515.28,-751.37 527.28,-718.87
3D body: height 12, standoff 0, extent 495.6,-764.87 507.6,-742.87
3D body: height 25, standoff 12, extent 495.6,-751.37 507.6,-718.87
3D body: height 12, standoff 0, extent 475.91,-764.87 487.91,-742.87
3D body: height 25, standoff 12, extent 475.91,-751.37 487.91,-718.87
3D body: height 12, standoff 0, extent 456.23,-764.87 468.23,-742.87
3D body: height 25, standoff 12, extent 456.23,-751.37 468.23,-718.87
3D body: height 12, standoff 0, extent 436.54,-764.87 448.54,-742.87
3D body: height 25, standoff 12, extent 436.54,-751.37 448.54,-718.87
3D body: height 25, standoff 12, extent 416.86,-751.37 428.86,-718.87
3D body: height 12, standoff 0, extent 416.86,-764.87 428.86,-742.87
3D body: height 12, standoff 0, extent 633.39,-764.87 645.39,-742.87
3D body: height 25, standoff 12, extent 633.39,-751.37 645.39,-718.87
3D body: height 12, standoff 0, extent 613.71,-764.87 625.71,-742.87
3D body: height 25, standoff 12, extent 613.71,-751.37 625.71,-718.87
3D body: height 12, standoff 0, extent 594.02,-764.87 606.02,-742.87
3D body: height 25, standoff 12, extent 594.02,-751.37 606.02,-718.87
3D body: height 12, standoff 0, extent 574.34,-764.87 586.34,-742.87
3D body: height 25, standoff 12, extent 574.34,-751.37 586.34,-718.87
3D body: height 12, standoff 0, extent 554.65,-764.87 566.65,-742.87
3D body: height 25, standoff 12, extent 554.65,-751.37 566.65,-718.87
3D body: height 25, standoff 12, extent 534.97,-751.37 546.97,-718.87
3D body: height 12, standoff 0, extent 534.97,-764.87 546.97,-742.87
3D body: height 12, standoff 0, extent 751.5,-764.87 763.5,-742.87
3D body: height 25, standoff 12, extent 751.5,-751.37 763.5,-718.87
3D body: height 12, standoff 0, extent 731.82,-764.87 743.82,-742.87
3D body: height 25, standoff 12, extent 731.82,-751.37 743.82,-718.87
3D body: height 12, standoff 0, extent 712.13,-764.87 724.13,-742.87
3D body: height 25, standoff 12, extent 712.13,-751.37 724.13,-718.87
3D body: height 12, standoff 0, extent 692.45,-764.87 704.45,-742.87
3D body: height 25, standoff 12, extent 692.45,-751.37 704.45,-718.87
3D body: height 12, standoff 0, extent 672.76,-764.87 684.76,-742.87
3D body: height 25, standoff 12, extent 672.76,-751.37 684.76,-718.87
3D body: height 25, standoff 12, extent 653.08,-751.37 665.08,-718.87
3D body: height 12, standoff 0, extent 653.08,-764.87 665.08,-742.87
3D body: height 12, standoff 0, extent -7,-596.18 15,-584.18
3D body: height 25, standoff 12, extent 6.5,-596.18 39,-584.18
3D body: height 25, standoff 12, extent 6.5,-615.86 39,-603.86
3D body: height 12, standoff 0, extent -7,-615.86 15,-603.86
3D body: height 25, standoff 12, extent 6.5,-635.55 39,-623.55
3D body: height 12, standoff 0, extent -7,-635.55 15,-623.55
3D body: height 25, standoff 12, extent 6.5,-655.23 39,-643.23
3D body: height 12, standoff 0, extent -7,-655.23 15,-643.23
3D body: height 25, standoff 12, extent 6.5,-674.92 39,-662.92
3D body: height 12, standoff 0, extent -7,-674.92 15,-662.92
3D body: height 25, standoff 12, extent 6.5,-694.6 39,-682.6
3D body: height 12, standoff 0, extent -7,-694.6 15,-682.6
3D body: height 12, standoff 0, extent -7,-478.07 15,-466.07
3D body: height 25, standoff 12, extent 6.5,-478.07 39,-466.07
3D body: height 25, standoff 12, extent 6.5,-497.75 39,-485.75
3D body: height 12, standoff 0, extent -7,-497.75 15,-485.75
3D body: height 25, standoff 12, extent 6.5,-517.44 39,-505.44
3D body: height 12, standoff 0, extent -7,-517.44 15,-505.44
3D body: height 25, standoff 12, extent 6.5,-537.12 39,-525.12
3D body: height 12, standoff 0, extent -7,-537.12 15,-525.12
3D body: height 25, standoff 12, extent 6.5,-556.81 39,-544.81
3D body: height 12, standoff 0, extent -7,-556.81 15,-544.81
3D body: height 25, standoff 12, extent 6.5,-576.49 39,-564.49
3D body: height 12, standoff 0, extent -7,-576.49 15,-564.49
3D body: height 12, standoff 0, extent -7,-359.96 15,-347.96
3D body: height 25, standoff 12, extent 6.5,-359.96 39,-347.96
3D body: height 25, standoff 12, extent 6.5,-379.64 39,-367.64
3D body: height 12, standoff 0, extent -7,-379.64 15,-367.64
3D body: height 25, standoff 12, extent 6.5,-399.33 39,-387.33
3D body: height 12, standoff 0, extent -7,-399.33 15,-387.33
3D body: height 25, standoff 12, extent 6.5,-419.01 39,-407.01
3D body: height 12, standoff 0, extent -7,-419.01 15,-407.01
3D body: height 25, standoff 12, extent 6.5,-438.7 39,-426.7
3D body: height 12, standoff 0, extent -7,-438.7 15,-426.7
3D body: height 25, standoff 12, extent 6.5,-458.38 39,-446.38
3D body: height 12, standoff 0, extent -7,-458.38 15,-446.38
3D body: height 12, standoff 0, extent -7,-241.85 15,-229.85
3D body: height 25, standoff 12, extent 6.5,-241.85 39,-229.85
3D body: height 25, standoff 12, extent 6.5,-261.53 39,-249.53
3D body: height 12, standoff 0, extent -7,-261.53 15,-249.53
3D body: height 25, standoff 12, extent 6.5,-281.22 39,-269.22
3D body: height 12, standoff 0, extent -7,-281.22 15,-269.22
3D body: height 25, standoff 12, extent 6.5,-300.9 39,-288.9
3D body: height 12, standoff 0, extent -7,-300.9 15,-288.9
3D body: height 25, standoff 12, extent 6.5,-320.59 39,-308.59
3D body: height 12, standoff 0, extent -7,-320.59 15,-308.59
3D body: height 25, standoff 12, extent 6.5,-340.27 39,-328.27
3D body: height 12, standoff 0, extent -7,-340.27 15,-328.27
3D body: height 12, standoff 0, extent -7,-123.74 15,-111.74
3D body: height 25, standoff 12, extent 6.5,-123.74 39,-111.74
3D body: height 25, standoff 12, extent 6.5,-143.42 39,-131.42
3D body: height 12, standoff 0, extent -7,-143.42 15,-131.42
3D body: height 25, standoff 12, extent 6.5,-163.11 39,-151.11
3D body: height 12, standoff 0, extent -7,-163.11 15,-151.11
3D body: height 25, standoff 12, extent 6.5,-182.79 39,-170.79
3D body: height 12, standoff 0, extent -7,-182.79 15,-170.79
3D body: height 25, standoff 12, extent 6.5,-202.48 39,-190.48
3D body: height 12, standoff 0, extent -7,-202.48 15,-190.48
3D body: height 25, standoff 12, extent 6.5,-222.16 39,-210.16
3D body: height 12, standoff 0, extent -7,-222.16 15,-210.16
3D body: height 12, standoff 0, extent -7,-104.05 15,-92.05
3D body: height 25, standoff 12, extent 6.5,-104.05 39,-92.05
3D body: height 12, standoff 0, extent -7,-84.37 15,-72.37
3D body: height 25, standoff 12, extent 6.5,-84.37 39,-72.37
3D body: height 12, standoff 0, extent -7,-64.68 15,-52.68
3D body: height 25, standoff 12, extent 6.5,-64.68 39,-52.68
3D body: height 12, standoff 0, extent -7,-45 15,-33
3D body: height 25, standoff 12, extent 6.5,-45 39,-33
3D body: height 12, standoff 0, extent -7,-25.31 15,-13.31
3D body: height 25, standoff 12, extent 6.5,-25.31 39,-13.31
3D body: height 25, standoff 12, extent 6.5,-5.63 39,6.37
3D body: height 12, standoff 0, extent -7,-5.63 15,6.37
3D body: height 40, standoff 0, extent 32.4,-722 789,32

## TSOP32 [mm] "TSSOP, 32-Leads, Body 8.1x18.5mm (max), Pitch 0.50mm, IPC Medium Density"
height 1.2
pads (32):
  rect 1.575x0.305 smd: 1(-9.65,3.75)
  oval 1.575x0.305 smd: 2(-9.65,3.25) 3(-9.65,2.75) 4(-9.65,2.25) 5(-9.65,1.75) 6(-9.65,1.25) 7(-9.65,0.75) 8(-9.65,0.25) 9(-9.65,-0.25) 10(-9.65,-0.75) 11(-9.65,-1.25) 12(-9.65,-1.75) 13(-9.65,-2.25) 14(-9.65,-2.75) 15(-9.65,-3.25) 16(-9.65,-3.75) 17(9.65,-3.75) 18(9.65,-3.25) 19(9.65,-2.75) 20(9.65,-2.25) 21(9.65,-1.75) 22(9.65,-1.25) 23(9.65,-0.75) 24(9.65,-0.25) 25(9.65,0.25) 26(9.65,0.75) 27(9.65,1.25) 28(9.65,1.75) 29(9.65,2.25) 30(9.65,2.75) 31(9.65,3.25) 32(9.65,3.75)
Top Overlay:
  lines w0.102: -10.719,-4.166 10.744,-4.166 10.744,4.166 -10.719,4.166 -10.719,-4.166
3D body: height 1.17, standoff 1.14, extent -8.43,3.311 -7.912,3.829
3D body: height 0.3, standoff 0, extent 9.269,-3.912 9.828,-3.607
3D body: height 0.64, standoff 0.3, extent 8.659,-3.912 9.485,-3.607
3D body: height 0.3, standoff 0, extent 9.269,-3.412 9.828,-3.107
3D body: height 0.64, standoff 0.3, extent 8.659,-3.412 9.485,-3.107
3D body: height 0.3, standoff 0, extent 9.269,-2.912 9.828,-2.607
3D body: height 0.64, standoff 0.3, extent 8.659,-2.912 9.485,-2.607
3D body: height 0.3, standoff 0, extent 9.269,-2.412 9.828,-2.107
3D body: height 0.64, standoff 0.3, extent 8.659,-2.412 9.485,-2.107
3D body: height 0.3, standoff 0, extent 9.269,-1.912 9.828,-1.607
3D body: height 0.64, standoff 0.3, extent 8.659,-1.912 9.485,-1.607
3D body: height 0.3, standoff 0, extent 9.269,-1.412 9.828,-1.107
3D body: height 0.64, standoff 0.3, extent 8.659,-1.412 9.485,-1.107
3D body: height 0.3, standoff 0, extent 9.269,-0.912 9.828,-0.607
3D body: height 0.64, standoff 0.3, extent 8.659,-0.912 9.485,-0.607
3D body: height 0.3, standoff 0, extent 9.269,-0.412 9.828,-0.107
3D body: height 0.64, standoff 0.3, extent 8.659,-0.412 9.485,-0.107
3D body: height 0.3, standoff 0, extent 9.269,0.088 9.828,0.393
3D body: height 0.64, standoff 0.3, extent 8.659,0.088 9.485,0.393
3D body: height 0.3, standoff 0, extent 9.269,0.588 9.828,0.893
3D body: height 0.64, standoff 0.3, extent 8.659,0.588 9.485,0.893
3D body: height 0.3, standoff 0, extent 9.269,1.088 9.828,1.393
3D body: height 0.64, standoff 0.3, extent 8.659,1.088 9.485,1.393
3D body: height 0.3, standoff 0, extent 9.269,1.588 9.828,1.893
3D body: height 0.64, standoff 0.3, extent 8.659,1.588 9.485,1.893
3D body: height 0.3, standoff 0, extent 9.269,2.088 9.828,2.393
3D body: height 0.64, standoff 0.3, extent 8.659,2.088 9.485,2.393
3D body: height 0.3, standoff 0, extent 9.269,2.588 9.828,2.893
3D body: height 0.64, standoff 0.3, extent 8.659,2.588 9.485,2.893
3D body: height 0.3, standoff 0, extent 9.269,3.088 9.828,3.393
3D body: height 0.64, standoff 0.3, extent 8.659,3.088 9.485,3.393
3D body: height 0.3, standoff 0, extent 9.269,3.588 9.828,3.893
3D body: height 0.64, standoff 0.3, extent 8.659,3.588 9.485,3.893
3D body: height 1.14, standoff 0.2, extent -8.763,-4.05 8.712,4.05
3D body: height 0.64, standoff 0.3, extent -9.485,-3.893 -8.659,-3.588
3D body: height 0.3, standoff 0, extent -9.828,-3.893 -9.269,-3.588
3D body: height 0.64, standoff 0.3, extent -9.485,-3.393 -8.659,-3.088
3D body: height 0.3, standoff 0, extent -9.828,-3.393 -9.269,-3.088
3D body: height 0.64, standoff 0.3, extent -9.485,-2.893 -8.659,-2.588
3D body: height 0.3, standoff 0, extent -9.828,-2.893 -9.269,-2.588
3D body: height 0.64, standoff 0.3, extent -9.485,-2.393 -8.659,-2.088
3D body: height 0.3, standoff 0, extent -9.828,-2.393 -9.269,-2.088
3D body: height 0.64, standoff 0.3, extent -9.485,-1.893 -8.659,-1.588
3D body: height 0.3, standoff 0, extent -9.828,-1.893 -9.269,-1.588
3D body: height 0.64, standoff 0.3, extent -9.485,-1.393 -8.659,-1.088
3D body: height 0.3, standoff 0, extent -9.828,-1.393 -9.269,-1.088
3D body: height 0.64, standoff 0.3, extent -9.485,-0.893 -8.659,-0.588
3D body: height 0.3, standoff 0, extent -9.828,-0.893 -9.269,-0.588
3D body: height 0.64, standoff 0.3, extent -9.485,-0.393 -8.659,-0.088
3D body: height 0.3, standoff 0, extent -9.828,-0.393 -9.269,-0.088
3D body: height 0.64, standoff 0.3, extent -9.485,0.107 -8.659,0.412
3D body: height 0.3, standoff 0, extent -9.828,0.107 -9.269,0.412
3D body: height 0.64, standoff 0.3, extent -9.485,0.607 -8.659,0.912
3D body: height 0.3, standoff 0, extent -9.828,0.607 -9.269,0.912
3D body: height 0.64, standoff 0.3, extent -9.485,1.107 -8.659,1.412
3D body: height 0.3, standoff 0, extent -9.828,1.107 -9.269,1.412
3D body: height 0.64, standoff 0.3, extent -9.485,1.607 -8.659,1.912
3D body: height 0.3, standoff 0, extent -9.828,1.607 -9.269,1.912
3D body: height 0.64, standoff 0.3, extent -9.485,2.107 -8.659,2.412
3D body: height 0.3, standoff 0, extent -9.828,2.107 -9.269,2.412
3D body: height 0.64, standoff 0.3, extent -9.485,2.607 -8.659,2.912
3D body: height 0.3, standoff 0, extent -9.828,2.607 -9.269,2.912
3D body: height 0.64, standoff 0.3, extent -9.485,3.107 -8.659,3.412
3D body: height 0.3, standoff 0, extent -9.828,3.107 -9.269,3.412
3D body: height 0.64, standoff 0.3, extent -9.485,3.607 -8.659,3.912
3D body: height 0.3, standoff 0, extent -9.828,3.607 -9.269,3.912